# Altium schematic symbol library Pad 1mm.Schlib: 1 symbol
Pins are listed as number, name and electrical type; pins without a type are passive.

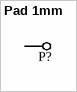
[diagram p0: symbol Pad 1mm]

## Pad 1mm
designator P?, comment Pad  (value not drawn)  (no BOM)
Test Pad
footprint Pad 1mm
pins: 1